# EAGLE library part 691414720004 (library Terminal_Blocks_Connectors_rev15e)
WR-TBL Terminal block - serie 4147 5,00mm - Spring clamp/Screwless - 45° entry - 04p Code:Con_TBL_Screwless_5.00_6914147200xx_691414720004 <http://katalog.we-online.de/media/images/eican/Con_TBL_Screwless_5.00_6914147200xx_pf2.jpg> Details see: http://katalog.we-online.de/en/em/691_414_720_0xxB/691_414_720_004B?m Created 2014-12-22, aslant tao 2014 (C) Würth Elektronik
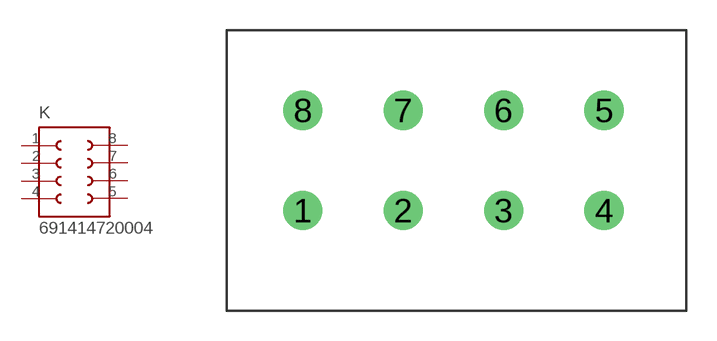
[diagram p255: symbol with the pads of 691414720004; footprint 691414720004]

Designator prefix K

## 691414720004  [691414720004]
1  1  pas
2  2  pas
3  3  pas
4  4  pas
5  5  pas
6  6  pas
7  7  pas
8  8  pas

## Footprint 691414720004 (pad centres in mm)
WR-TBL Serie 4147 - 5.0mm Screwless 45° Entry - 3 mm2 Wires, 4 Pins
drill 1.3: 1 -5,0; 2 0,0; 3 5,0; 4 10,0; 5 10,5; 6 5,5; 7 0,5; 8 -5,5